# Altium footprint library lps_display_rev_i.PcbLib: 33 footprints (part 2 of 3)
Each footprint in its own frame and in the unit in brackets; x right, y up, seen from the top. Pads: shape width x height; smd on the part's side, far side on the other; paste and mask are expansions set on the pad; w line width, h text height; cw(c..) or ccw(c..) is an arc to the next point about the centre after c.
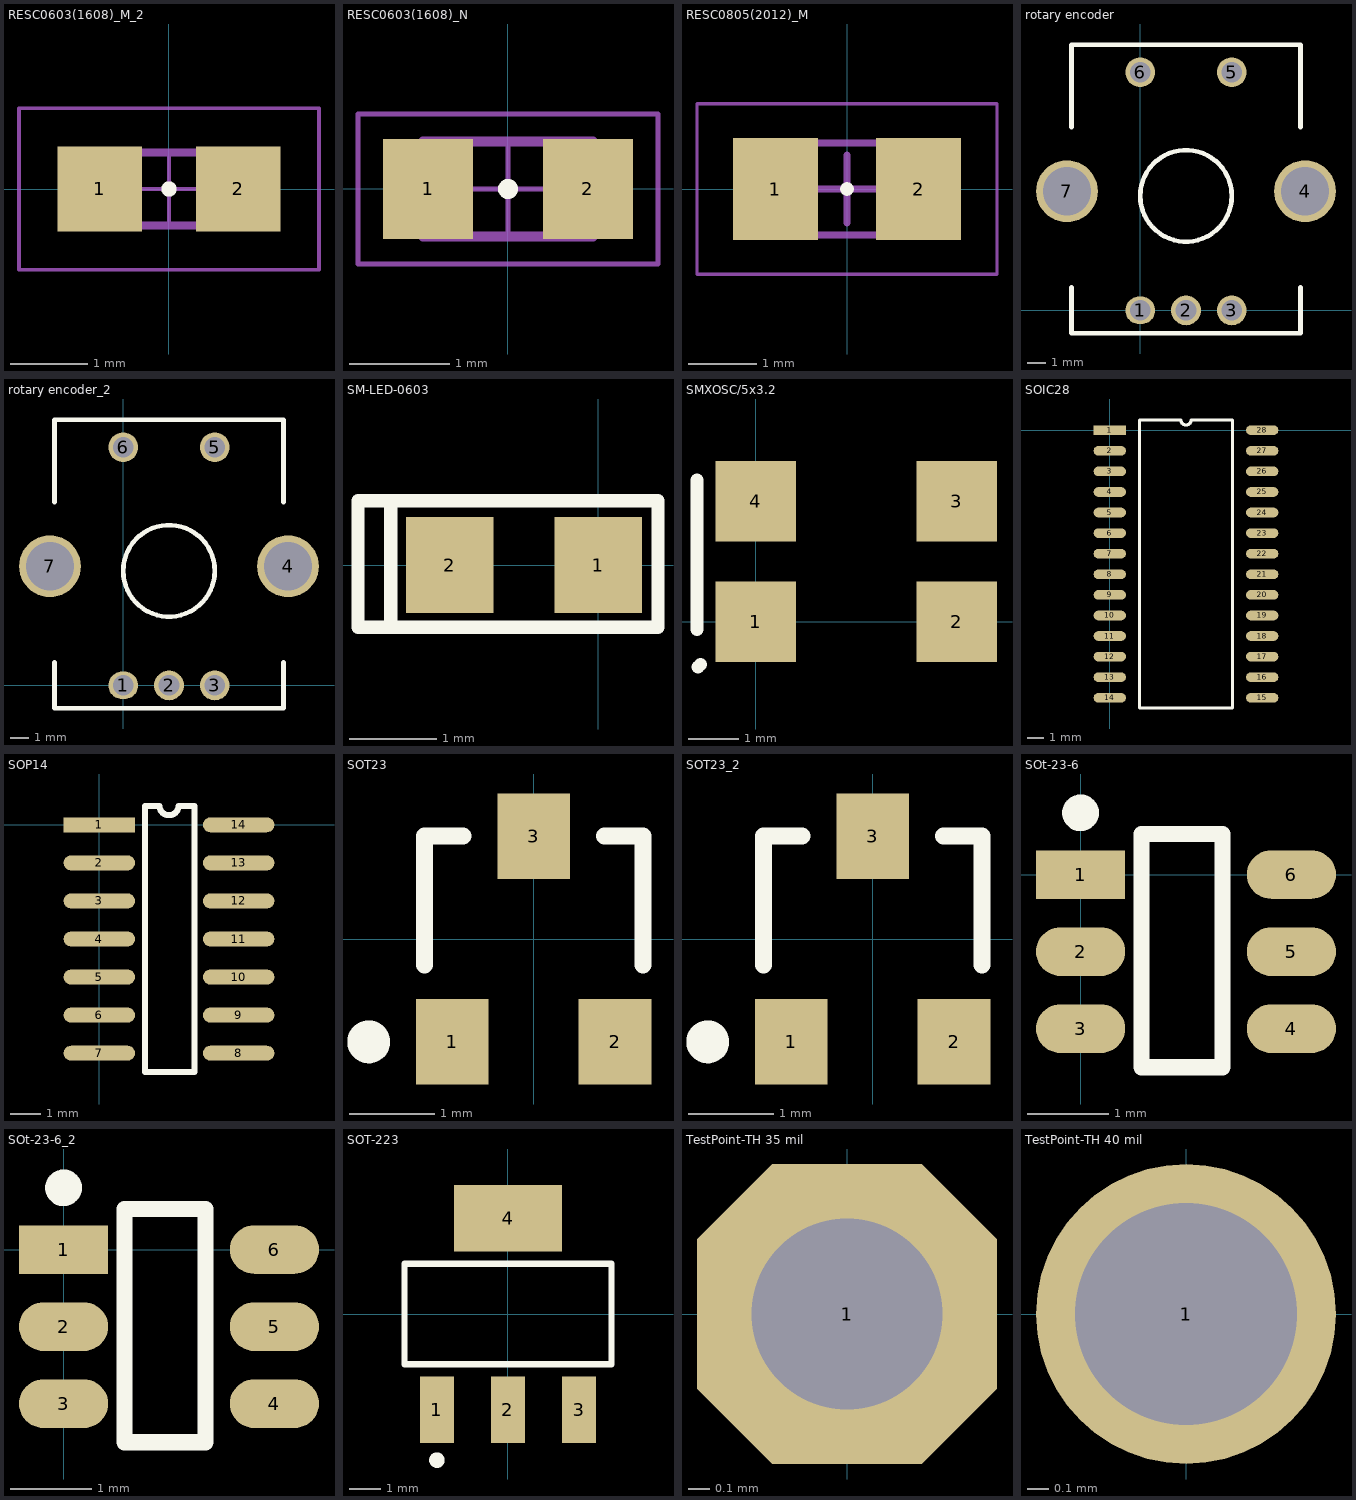
[diagram p1: the footprints below, top view; thin cyan lines are the x and y axes]

## RESC0603(1608)_M_2 [mm]
pads (2):
  rect 1.1x1.1 smd: 1(-0.9,0) 2(0.9,0)
Top Overlay:
  circle w0.1: c0,0 r0.05
Mechanical 13:
  lines w0.1: -0.85,-0.475 -0.85,0.475 0.85,0.475 0.85,-0.475 -0.85,-0.475
Mechanical 15:
  lines w0.05: -0.475,0 0.475,0 ; 0,-0.475 0,0.475 ; -1.95,-1.05 -1.95,1.05 1.95,1.05 1.95,-1.05 -1.95,-1.05
3D body "RES-0603.STEP": height 0.51, standoff 0, extent -0.799,-0.427 0.801,0.433

## RESC0603(1608)_N [mm]
pads (2):
  rect 0.9x1 smd: 1(-0.8,0) 2(0.8,0)
Top Overlay:
  circle w0.1: c0,0 r0.05
Mechanical 13:
  lines w0.1: -0.85,-0.475 0.85,-0.475 0.85,0.475 -0.85,0.475 -0.85,-0.475
Mechanical 15:
  lines w0.05: -0.475,0 0.475,0 ; 0,-0.475 0,0.475 ; -1.5,-0.75 1.5,-0.75 1.5,0.75 -1.5,0.75 -1.5,-0.75
3D body "RES-0603.STEP": height 0.51, standoff 0, extent -0.799,-0.427 0.801,0.433

## RESC0805(2012)_M [mm]
pads (2):
  rect 1.25x1.5 smd: 1(-1.05,0) 2(1.05,0)
Top Overlay:
  circle w0.1: c0,0 r0.05
Mechanical 13:
  lines w0.1: -1.1,-0.675 -1.1,0.675 1.1,0.675 1.1,-0.675 -1.1,-0.675
Mechanical 15:
  lines w0.05: -2.2,-1.25 -2.2,1.25 2.2,1.25 2.2,-1.25 -2.2,-1.25
  lines w0.1: -0.5,0 0.5,0 ; 0,-0.5 0,0.5
3D body "RES-0805.STEP": height 0.46, standoff 0, extent -1.009,-0.631 0.991,0.629

## rotary encoder [mil]
pads (7):
  oval 65x60 hole 45: 1(0,0)
  round 65 hole 45: 2(100,0) 3(200,0) 5(200,520) 6(0,520)
  round 135 hole 105: 4(360,260) 7(-160,260)
Top Overlay:
  circle w10: c100,250 r100
  lines w10: -150,50 -150,-50 350,-50 350,50 ; -150,400 -150,580 350,580 350,400

## rotary encoder_2 [mil]
pads (7):
  oval 65x60 hole 45: 1(0,0)
  round 65 hole 45: 2(100,0) 3(200,0) 5(200,520) 6(0,520)
  round 135 hole 105: 4(360,260) 7(-160,260)
Top Overlay:
  circle w10: c100,250 r100
  lines w10: -150,50 -150,-50 350,-50 350,50 ; -150,400 -150,580 350,580 350,400

## SM-LED-0603 [mm]
pads (2):
  rect 1x1.1 smd: 1(0,0) 2(-1.7,0)
Top Overlay:
  lines w0.152: -2.375,-0.711 -2.375,0.737 ; 0.686,-0.711 0.686,0.217 ; 0.686,-0.711 0.686,0.217 ; 0.686,-0.711 -2.75,-0.711 -2.75,0.737 0.686,0.737 0.686,0.217
3D body "0603-led.STEP": height 0.67, standoff 0, extent -1.65,-0.337 0,0.388

## SMXOSC/5x3.2 [mm]
pads (4):
  rect 1.6x1.6 smd: 1(0,0) 2(4,0) 3(4,2.4) 4(0,2.4)
Top Overlay:
  lines w0.254: -1.168,-0.152 -1.168,2.819 ; -1.15,-0.9 -1.1,-0.85
3D body "Crystal-ABM3B.STEP": height 1.1, standoff 0, extent -0.544,-0.407 4.456,2.793

## SOIC28 [mm]
pads (28):
  rect 2x0.6 smd: 1(0,0)
  oval 2x0.6 smd: 2(0,-1.27) 3(0,-2.54) 4(0,-3.81) 5(0,-5.08) 6(0,-6.35) 7(0,-7.62) 8(0,-8.89) 9(0,-10.16) 10(0,-11.43) 11(0,-12.7) 12(0,-13.97) 13(0,-15.24) 14(0,-16.51) 15(9.4,-16.51) 16(9.4,-15.24) 17(9.4,-13.97) 18(9.4,-12.7) 19(9.4,-11.43) 20(9.4,-10.16) 21(9.4,-8.89) 22(9.4,-7.62) 23(9.4,-6.35) 24(9.4,-5.08) 25(9.4,-3.81) 26(9.4,-2.54) 27(9.4,-1.27) 28(9.4,0)
Top Overlay:
  lines w0.2: 1.835,-17.145 7.565,-17.145 7.565,0.635 5.017,0.635 cw(c4.7,0.635) 4.382,0.635 1.835,0.635 1.835,-17.145

## SOP14 [mm]
pads (14):
  rect 2.388x0.5 smd: 1(0,0)
  oval 2.388x0.5 smd: 2(0,-1.27) 3(0,-2.54) 4(0,-3.81) 5(0,-5.08) 6(0,-6.35) 7(0,-7.62) 8(4.648,-7.62) 9(4.648,-6.35) 10(4.648,-5.08) 11(4.648,-3.81) 12(4.648,-2.54) 13(4.648,-1.27) 14(4.648,0)
Top Overlay:
  lines w0.2: 1.524,-8.255 3.175,-8.255 3.175,0.635 2.641,0.635 cw(c2.324,0.635) 2.006,0.635 1.524,0.635 1.524,-8.255

## SOT23 [mm]
pads (3):
  rect 0.85x1 smd: 1(-0.95,-1.2) 2(0.95,-1.2) 3(0,1.2)
Top Overlay:
  circle w0.25: c-1.925,-1.2 r0.125
  lines w0.2: -1.275,-0.3 -1.275,1.2 -0.825,1.2 ; 0.825,1.2 1.275,1.2 1.275,-0.3
3D body "SOT23.STEP": height 1.1, standoff 0, extent -1.549,-1.27 1.451,1.23

## SOT23_2 [mm]
pads (3):
  rect 0.85x1 smd: 1(-0.95,-1.2) 2(0.95,-1.2) 3(0,1.2)
Top Overlay:
  circle w0.25: c-1.925,-1.2 r0.125
  lines w0.2: -1.275,-0.3 -1.275,1.2 -0.825,1.2 ; 0.825,1.2 1.275,1.2 1.275,-0.3
3D body "SOT23.STEP": height 1.1, standoff 0, extent -1.499,-1.27 1.501,1.23

## SOt-23-6 [mm]
pads (6):
  rect 1.1x0.6 smd: 1(0,0)
  oval 1.1x0.6 smd: 2(0,-0.95) 3(0,-1.9) 4(2.6,-1.9) 5(2.6,-0.95) 6(2.6,0)
Top Overlay:
  circle w0.254: c0,0.762 r0.1
  lines w0.2: 0.75,-2.375 1.75,-2.375 1.75,0.5 0.75,0.5 0.75,-2.375

## SOt-23-6_2 [mm]
pads (6):
  rect 1.1x0.6 smd: 1(0,0)
  oval 1.1x0.6 smd: 2(0,-0.95) 3(0,-1.9) 4(2.6,-1.9) 5(2.6,-0.95) 6(2.6,0)
Top Overlay:
  circle w0.254: c0,0.762 r0.1
  lines w0.2: 0.75,-2.375 0.75,0.5 1.75,0.5 1.75,-2.375 0.75,-2.375

## SOT-223 [mm]
pads (4):
  rect 1.1x2.15 smd: 1(-2.3,-3.1) 2(0,-3.1) 3(2.3,-3.1)
  rect 3.5x2.15 smd: 4(0,3.1)
Top Overlay:
  circle w0.25: c-2.3,-4.725 r0.125
  lines w0.2: -3.35,-1.625 -3.35,1.625 3.35,1.625 3.35,-1.625 -3.35,-1.625
3D body "SOT223.STEP": height 1.68, standoff 0, extent -3.223,-3.353 3.277,3.607

## TestPoint-TH 35 mil [mil]
pads (1):
  oct 55x55 hole 35: 1(0,0)

## TestPoint-TH 40 mil [mil]
pads (1):
  round 54 hole 40: 1(0,0)